# Altium footprint library ECS-100AX-010.PcbLib: 2 footprints
Each footprint in its own frame and in the unit in brackets; x right, y up, seen from the top. Pads: shape width x height; smd on the part's side, far side on the other; paste and mask are expansions set on the pad; w line width, h text height; cw(c..) or ccw(c..) is an arc to the next point about the centre after c.
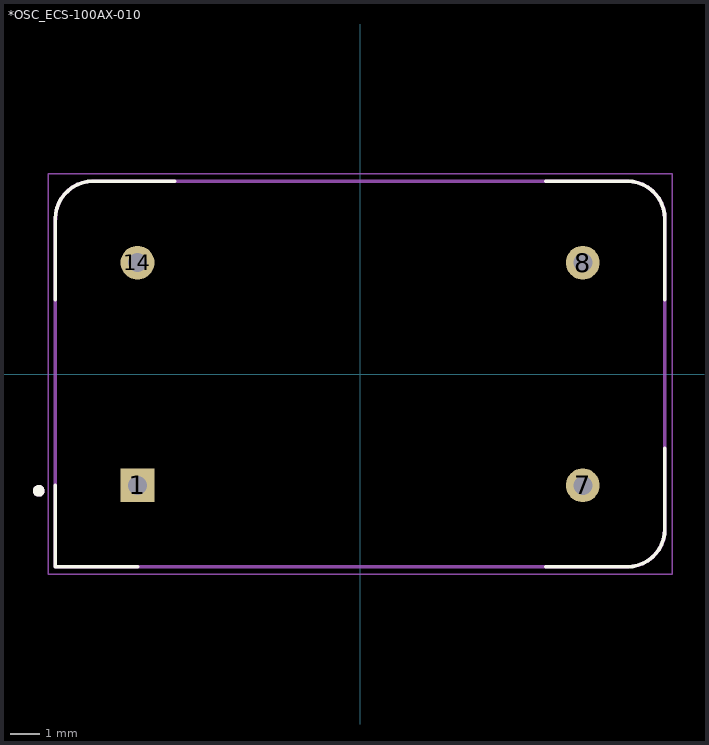
[diagram p0: the footprints below, top view; thin cyan lines are the x and y axes]

## *OSC_ECS-100AX-010 [mm]
pads (4):
  rect 1.158x1.158 hole 0.65: 1(-7.62,-3.81)
  round 1.158 hole 0.65: 7(7.62,-3.81) 8(7.62,3.81) 14(-7.62,3.81)
Top Overlay:
  circle w0.2: c-11,-4 r0.1
  lines w0.127: -10.43,-3.81 -10.43,-6.6 -7.62,-6.6 ; -10.43,2.54 -10.43,5.3 ; -10.43,5.31 cw(c-9.14,5.31) -9.14,6.6 ; -9.15,6.6 -6.35,6.6 ; 6.35,-6.6 9.15,-6.6 ; 6.35,6.6 9.15,6.6 ; 9.14,-6.6 ccw(c9.14,-5.31) 10.43,-5.31 ; 9.14,6.6 cw(c9.14,5.31) 10.43,5.31 ; 10.43,-5.3 10.43,-2.54 ; 10.43,2.54 10.43,5.3
Mechanical 4:
  circle w0.2: c-11,-4 r0.1
  circle w0.2: c-11,-4 r0.1
  lines w0.127: -10.43,-6.6 9.16,-6.6 -10.43,-6.6 ; -10.43,-6.6 -10.43,5.3 -10.43,-6.6 ; -10.43,5.293 cw(c-9.145,5.315) -9.167,6.6 ccw(c-9.145,5.315) -10.43,5.293 ; -9.16,6.6 9.16,6.6 -9.16,6.6 ; 9.167,-6.6 ccw(c9.145,-5.315) 10.43,-5.293 cw(c9.145,-5.315) 9.167,-6.6 ; 9.167,6.6 cw(c9.145,5.315) 10.43,5.293 ccw(c9.145,5.315) 9.167,6.6 ; 10.43,-5.3 10.43,5.3 10.43,-5.3
Mechanical 16:
  lines w0.05: -10.68,-6.85 10.68,-6.85 10.68,6.85 -10.68,6.85 -10.68,-6.85
3D body: height 4.65, standoff 4.65, extent -7.112,-2.984 7.112,2.985
3D body: height 0.25, standoff 0, extent 13.335,-0.508 13.335,-0.508
3D body "User Library-OSC_DIP-14.step": height 4.61, standoff -1.99, extent -10.1,-6.35 10.1,6.35

## PCBComponent_1 [mil]